# EAGLE library part SN74LVC2G17 (library apple-mini)
Texas Instruments SN74LVC2G17 Dual Schmitt-Trigger Buffer The SN74LVC2G17 device contains two buffers and performs the Boolean function Y = A. The device functions as two independent buffers, but because of Schmitt action, it may have different input threshold levels for positive-going (VT+) and negative-going (VT–) signals. Source: http://www.ti.com/lit/ds/symlink/sn74lvc2g17.pdf
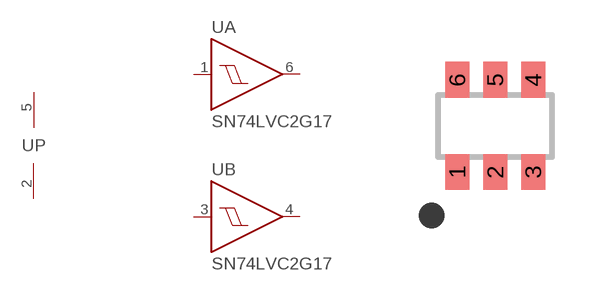
[diagram p5: symbol with the pads of SOT23-6; footprint SOT23-6]

Designator prefix U; gates A=SCHMITT B=SCHMITT P=PWRN

## SN74LVC2G17DBV (MFR: Texas Instruments; MFR_PARTNO: SN74LVC2G17DBVR)  [SOT23-6]
1  A:A  in
2  P:GND  pwr
3  B:A  in
4  B:Y  out
5  P:VCC  pwr
6  A:Y  out

## Footprint SOT23-6 (pad centres in mm)
Small Outline Transistor
smd 0.6 x 0.9: 1 -0.95,-1.15; 2 0,-1.15; 3 0.95,-1.15; 4 0.95,1.15; 5 0,1.15; 6 -0.95,1.15